# Altium schematic symbol library Science_Sensors.SchLib: 1 symbol
Pins are listed as number, name and electrical type; pins without a type are passive.

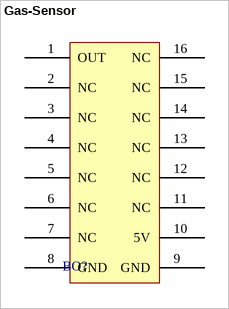
[diagram p0: symbol Gas-Sensor]

## Gas-Sensor
designator BO?  (value not drawn)
Gas Sensor For Science MIKROE-1630
pins: 1 OUT, 2 NC, 3 NC, 4 NC, 5 NC, 6 NC, 7 NC, 8 GND, 9 GND, 10 5V, 11 NC, 12 NC, 13 NC, 14 NC, 15 NC, 16 NC